# Altium schematic symbol library SS310BF-HF.SchLib: 1 symbol
Pins are listed as number, name and electrical type; pins without a type are passive.

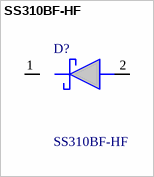
[diagram p0: symbol SS310BF-HF]

## SS310BF-HF
designator D?
- Metal silicon junction, majority carrier conduction. - For surface mounted applications. - Low power loss, high efficiency. - High forward surge current capability. - For use in low voltage, high frequency inverters,  free wheeling, and polarity protection applications; Manufacturer_Name: Comchip Technology; Geometry.Height: 1.3mm; Mouser Part Number: 750-SS310BF-HF; Mouser Price/Stock: https://www.mouser.co.uk/ProductDetail/Comchip-Technology/SS310BF-HF?qs=GBLSl2AkirtJEJa0hY031Q%3D%3D; Manufacturer_Part_Number: SS310BF-HF; Datasheet Link: https://www.mouser.de/datasheet/2/80/20190807092401-2505002.pdf
footprint SODFL5336X130N
pins: 1 K, 2 A